# Altium schematic symbol library BMS_Slave.SchLib: 52 symbols
Pins are listed as number, name and electrical type; pins without a type are passive.

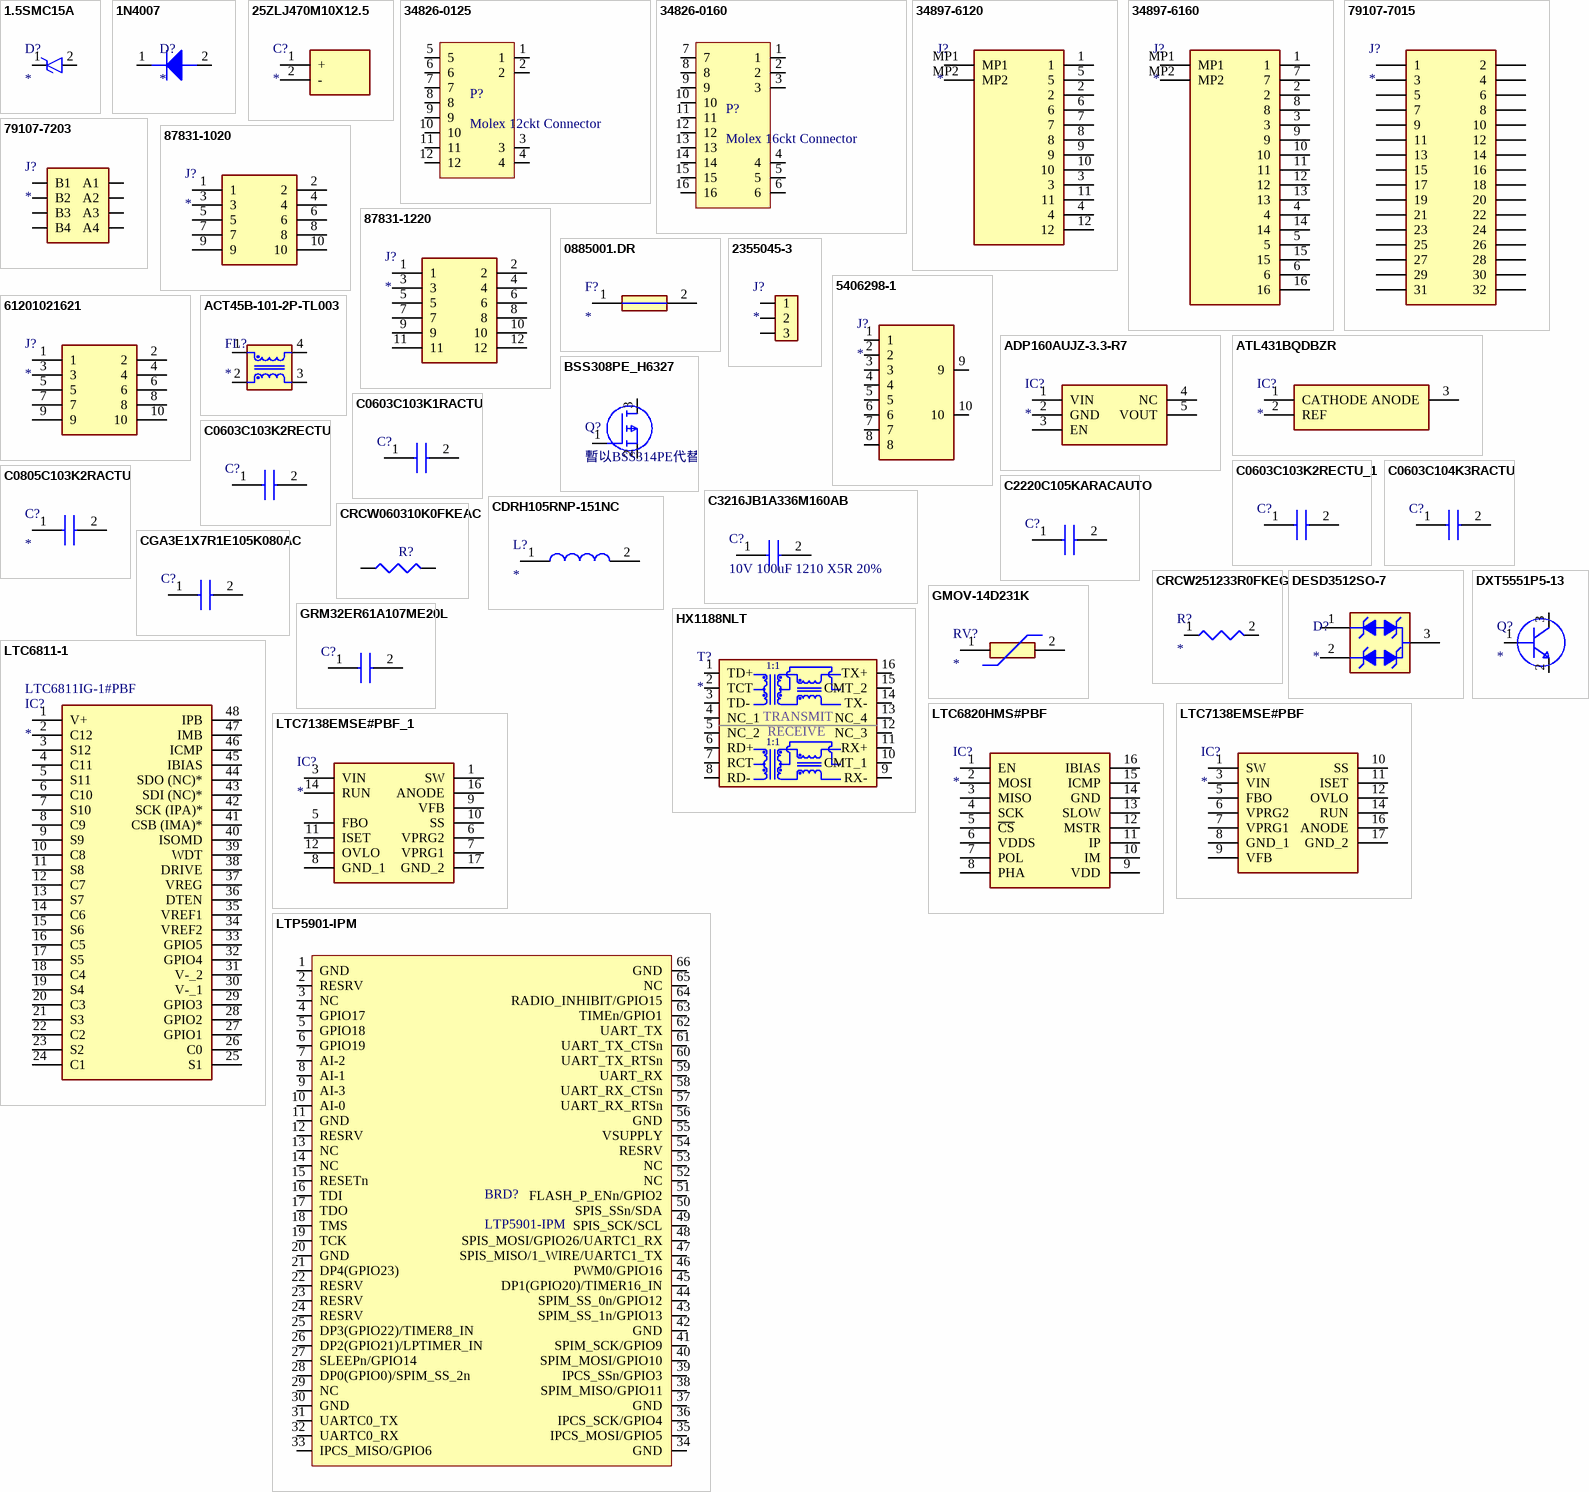
[diagram p0: symbols 1.5SMC15A to LTP5901-IPM]

## 1.5SMC15A
designator D?
TVS Diode (Uni-directional), Vwork=12.8V, V; Manufacturer_Name: ON Semiconductor; Manufacturer_Part_Number: SZESD9101P2T5G; Datasheet Link: http://www.onsemi.com/pub/Collateral/ESD9101-D.PDF; Height: 0.4mm; Mouser Part Number: 863-SZESD9101P2T5G; Mouser Price/Stock: https://www.mouser.co.uk/ProductDetail/ON-Semiconductor/SZESD9101P2T5G?qs=5aG0NVq1C4yTUV3vL3eSQg%3D%3D; Arrow Part Number: SZESD9101P2T5G; Arrow Price/Stock: https://www.arrow.com/en/products/szesd9101p2t5g/on-semiconductor
footprint SODFL1006X40N
pins: 1 K, 2 A

## 1N4007
designator D?
Diode; Manufacturer_Name: Shikues; Manufacturer_Part_Number: 1N4007; Datasheet Link: https://datasheet.lcsc.com/szlcsc/SK-1N4007_C126233.pdf; Height: 2.42mm
footprint DIOM5327X242N
pins: 1 -, 2 +

## 25ZLJ470M10X12.5
designator C?
Capacitor Polarised; Manufacturer_Name: Rubycon; Manufacturer_Part_Number: 25ZLJ470M10X12.5; Datasheet Link: http://www.rubycon.co.jp/en/catalog/e_pdfs/aluminum/e_zlj.pdf; Height: 13.5mm; Mouser Part Number: 232-25ZLJ470M10X12.5; Mouser Price/Stock: https://www.mouser.com/Search/Refine.aspx?Keyword=232-25ZLJ470M10X12.5; RS Part Number: 7258950P; RS Price/Stock: http://uk.rs-online.com/web/p/products/7258950P
footprint CAPPRD500W60D1050H1350
pins: 1 +, 2 -

## 34826-0125
designator P?, comment Molex 12ckt Connector
Molex Mini50, 12ckt
footprint 34826-0125 (Molex, MINI50, 12ckt)
pins: 1, 2, 3, 4, 5, 6, 7, 8, 9, 10, 11, 12

## 34826-0160
designator P?, comment Molex 16ckt Connector
Molex Mini50, 16ckt
footprint 34826-0160 (Molex, MINI50, 16ckt)
pins: 1, 2, 3, 4, 5, 6, 7, 8, 9, 10, 11, 12, 13, 14, 15, 16

## 34897-6120
designator J?
Connector; Manufacturer_Name: Molex; Manufacturer_Part_Number: 34897-6120; Datasheet Link: https://componentsearchengine.com/Datasheets/1/34897-6120.pdf; Height: 12.44mm; Mouser Part Number: 538-34897-6120; Mouser Price/Stock: https://www.mouser.com/Search/Refine.aspx?Keyword=538-34897-6120
footprint 348976120
pins: 1, 2, 3, 4, 5, 6, 7, 8, 9, 10, 11, 12, MP1, MP2

## 34897-6160
designator J?
Connector; Manufacturer_Name: Molex; Manufacturer_Part_Number: 34897-6160; Datasheet Link: https://www.molex.com/pdm_docs/sd/348976160_sd.pdf; Height: 11.88mm; Mouser Part Number: 538-34897-6160; Mouser Price/Stock: https://www.mouser.co.uk/ProductDetail/Molex/34897-6160?qs=HXFqYaX1Q2x%252BG%2FltLjIUuQ%3D%3D
footprint 348976160
pins: 1, 2, 3, 4, 5, 6, 7, 8, 9, 10, 11, 12, 13, 14, 15, 16, MP1, MP2

## 79107-7015
designator J?
Connector; Manufacturer_Name: Molex; Manufacturer_Part_Number: 79107-7015; Datasheet Link: https://www.mouser.it/ProductDetail/?qs=sC9oT6LG9NABSUXoaYw0oQ%3D%3D; Height: 4.69mm; Mouser Part Number: 538-79107-7015; Mouser Price/Stock: https://www.mouser.co.uk/ProductDetail/Molex/79107-7015/?qs=sC9oT6LG9NABSUXoaYw0oQ%3D%3D
footprint 791077015
pins: 1, 2, 3, 4, 5, 6, 7, 8, 9, 10, 11, 12, 13, 14, 15, 16, 17, 18, 19, 20, 21, 22, 23, 24, 25, 26, 27, 28, 29, 30, 31, 32

## 79107-7203
designator J?
2x4 Connector; Manufacturer_Name: Molex; Manufacturer_Part_Number: 79107-7203; Datasheet Link: https://www.molex.com/pdm_docs/sd/791077002_sd.pdf; Height: 4.44mm; Mouser Part Number: 538-79107-7203; Mouser Price/Stock: https://www.mouser.com/Search/Refine.aspx?Keyword=538-79107-7203
footprint 791077203
pins: A1, A2, A3, A4, B1, B2, B3, B4

## 87831-1020
designator J?
Connector; Manufacturer_Name: Molex; Manufacturer_Part_Number: 87831-1020; Datasheet Link: http://docs-emea.rs-online.com/webdocs/150d/0900766b8150deae.pdf; Height: 6.4mm; Mouser Part Number: 538-87831-1020; Mouser Price/Stock: https://www.mouser.co.uk/ProductDetail/Molex/87831-1020?qs=8PELaTI4Pt8k%2F%2FV9vKeYIg%3D%3D; ComponentLink1Description: Mouser; ComponentLink1URL: https://www.mouser.tw/ProductDetail/Molex/87831-1020?qs=sGAEpiMZZMvlX3nhDDO4ALOty1HZ%252Bs%252BngO6zIVHY%252BW4%3D
footprint SHDR10W55P200_2X5_1265X630X640P
pins: 1, 2, 3, 4, 5, 6, 7, 8, 9, 10

## 87831-1220
designator J?
Connector; Manufacturer_Name: Molex; Manufacturer_Part_Number: 87831-1220; Datasheet Link: http://docs-emea.rs-online.com/webdocs/150d/0900766b8150deae.pdf; Height: 6.4mm; Mouser Part Number: 538-87831-1220; Mouser Price/Stock: https://www.mouser.co.uk/ProductDetail/Molex/87831-1220?qs=ZD3%252BwFPSULxSWc7O5pIOcA%3D%3D; ComponentLink1Description: Mouser; ComponentLink1URL: https://www.mouser.tw/ProductDetail/Molex/87831-1220?qs=ZD3%252BwFPSULxSWc7O5pIOcA%3D%3D
footprint SHDR12W55P200_2X6_1465X630X640P
pins: 1, 2, 3, 4, 5, 6, 7, 8, 9, 10, 11, 12

## 0885001.DR
designator F?
Fuse; Manufacturer_Name: LITTELFUSE; Manufacturer_Part_Number: 0885001.DR; Datasheet Link: https://m.littelfuse.com/~/media/electronics/datasheets/fuses/littelfuse_fuse_885_datasheet.pdf.pdf; Height: 4.88mm; Mouser Part Number: 576-0885001.DR; Mouser Price/Stock: https://www.mouser.co.uk/ProductDetail/Littelfuse/0885001DR/?qs=r5DSvlrkXmKVcuud9wy%2Flg%3D%3D; Arrow Part Number: 0885001.DR; Arrow Price/Stock: https://www.arrow.com/en/products/0885001.dr/littelfuse; ComponentLink1Description: Mouser; ComponentLink1URL: https://www.mouser.tw/ProductDetail/Littelfuse/0885001DR?qs=%2Fha2pyFaduiwU43SpjNCEUlIPJiIEFAqTblCrVFP8sIyn2w6Lh2S1g%3D%3D; ComponentLink2Description: Datasheet; ComponentLink2URL: https://www.mouser.tw/datasheet/2/240/Littelfuse_Fuse_885_Datasheet_pdf-1371443.pdf
footprint 0679L0250-05_fuse_SMD (125VDC, Irated=0.25A Fuse)
pins: 1, 2

## 2355045-3
designator J?
2mm, 3POS Jumper Socket; Manufacturer_Name: TE Connectivity; Manufacturer_Part_Number: 2355045-3; Datasheet Link: https://www.te.com/commerce/DocumentDelivery/DDEController?Action=showdoc&DocId=Customer+Drawing%7F2355045%7FA%7Fpdf%7FEnglish%7FENG_CD_2355045_A.pdf%7F2355045-6; Height: 5.5mm; Mouser Part Number: 571-2355045-3; Mouser Price/Stock: https://www.mouser.co.uk/ProductDetail/TE-Connectivity/2355045-3/?qs=Cb2nCFKsA8pFN07a8M%2F2vA%3D%3D
footprint 23550453
pins: 1, 2, 3

## 5406298-1
designator J?
Connector; Manufacturer_Name: TE Connectivity; Manufacturer_Part_Number: 5406298-1; Datasheet Link: https://www.te.com/commerce/DocumentDelivery/DDEController?Action=showdoc&DocId=Customer+Drawing%7F5406298%7FD%7Fpdf%7FEnglish%7FENG_CD_5406298_D.pdf%7F5406298-1; Height: 14.48mm; Mouser Part Number: 571-5406298-1; Mouser Price/Stock: https://www.mouser.co.uk/ProductDetail/TE-Connectivity/5406298-1?qs=l9GpKJB5FDKzdZ%252B2Xub1%2Fg%3D%3D; Arrow Part Number: 5406298-1; Arrow Price/Stock: https://www.arrow.com/en/products/5406298-1/te-connectivity
footprint 54062981
pins: 1, 2, 3, 4, 5, 6, 7, 8, 9, 10

## 61201021621
designator J?
Connector; Manufacturer_Name: Wurth Elektronik; Manufacturer_Part_Number: 61201021621; Datasheet Link: http://docs-emea.rs-online.com/webdocs/13f3/0900766b813f3580.pdf; Height: 9.25mm; Mouser Part Number: 710-61201021621; Mouser Price/Stock: https://www.mouser.co.uk/ProductDetail/Wurth-Elektronik/61201021621?qs=W%252B2sBeLta1a0dwX5pxbfXw%3D%3D; ComponentLink1Description: Mouser; ComponentLink1URL: https://www.mouser.tw/ProductDetail/Wurth-Elektronik/61201021621?qs=W%252B2sBeLta1a0dwX5pxbfXw%3D%3D
footprint SHDR10W64P254_2X5_2036X885X925P
pins: 1, 2, 3, 4, 5, 6, 7, 8, 9, 10

## ACT45B-101-2P-TL003
designator FL?
Filter; Manufacturer_Name: TDK; Manufacturer_Part_Number: ACT45B-101-2P-TL003; Datasheet Link: https://componentsearchengine.com/Datasheets/2/ACT45B-101-2P-TL003.pdf; Height: 3mm; Mouser Part Number: 810-ACT45B1012PTL003; Mouser Price/Stock: https://www.mouser.co.uk/ProductDetail/TDK/ACT45B-101-2P-TL003?qs=SKgu1TwNDxoLFWvwfqJuJA%3D%3D; Arrow Part Number: ACT45B-101-2P-TL003; Arrow Price/Stock: https://www.arrow.com/en/products/act45b-101-2p-tl003/tdk
footprint ACT45B1012PTL003
pins: 1, 2, 3, 4

## ADP160AUJZ-3.3-R7
designator IC?
Integrated Circuit; Manufacturer_Name: Analog Devices; Manufacturer_Part_Number: ADP160AUJZ-3.3-R7; Datasheet Link: https://datasheet.lcsc.com/szlcsc/Analog-Devices-ADI-ADP160AUJZ-3-3-R7_C153207.pdf; Height: 1mm; Mouser Part Number: 584-ADP160AUJZ-3.3R7; Mouser Price/Stock: https://www.mouser.co.uk/ProductDetail/Analog-Devices/ADP160AUJZ-33-R7?qs=WIvQP4zGanjwQREaBvEWig%3D%3D; Arrow Part Number: ADP160AUJZ-3.3-R7; Arrow Price/Stock: https://www.arrow.com/en/products/adp160aujz-3.3-r7/analog-devices
footprint SOT95P280X100-5N
pins: 1 VIN, 2 GND, 3 EN, 4 NC, 5 VOUT

## ATL431BQDBZR
designator IC?
Integrated Circuit; Manufacturer_Name: Texas Instruments; Manufacturer_Part_Number: ATL431BQDBZR; Datasheet Link: http://www.ti.com/lit/gpn/atl431; Height: 1.12mm; Mouser Part Number: 595-ATL431BQDBZR; Mouser Price/Stock: https://www.mouser.com/Search/Refine.aspx?Keyword=595-ATL431BQDBZR
footprint SOT95P237X112-3N
pins: 1 CATHODE, 2 REF, 3 ANODE

## BSS308PE_H6327
designator Q?, comment 暫以BSS314PE代替
MOSFET (P-Channel); Manufacturer_Name: Infineon; Manufacturer_Part_Number: BSS308PE H6327; Datasheet Link: https://componentsearchengine.com/Datasheets/1/BSS308PE H6327.pdf; Height: 1.1mm; Mouser Part Number: 726-BSS308PEH6327; Mouser Price/Stock: https://www.mouser.co.uk/ProductDetail/Infineon-Technologies/BSS308PE-H6327/?qs=oPPfIaWL1l0trIaeR9VW8A%3D%3D
footprint SOT95P260X110-3N
pins: 1 G, 2 S, 3 D

## C0603C103K1RACTU
designator C?, comment 100V 0.01uF 0603 X7R 10%  (value not drawn)
Manufacturer_Name: Kemet; Manufacturer_Part_Number: C0603C103K1RACTU; Mouser Part Number: 80-C0603C103K1R; Mouser Price/Stock: https://www.mouser.co.uk/ProductDetail/KEMET/C0603C103K1RACTU?qs=cRfsnvmdsa72Sk5Ae%252BpQKQ%3D%3D; Arrow Part Number: C0603C103K1RACTU; Arrow Price/Stock: https://www.arrow.com/en/products/c0603c103k1ractu/kemet-corporation; ComponentLink1Description: Mouser; ComponentLink1URL: https://www.mouser.tw/ProductDetail/KEMET/C0603C103K1RACTU?qs=cRfsnvmdsa72Sk5Ae%252BpQKQ%3D%3D
footprint CAPC1608X85N
pins: 1 C1, 2 C2

## C0603C103K2RECTU
designator C?, comment 200V, 0.01uF, 0603, X7R  (value not drawn)
200V, 0.01uF, 0603, X7R, 10%, Capacitor; Manufacturer_Name: Kemet; Manufacturer_Part_Number: C0805X103M2RACAUTO; Datasheet Link: https://eu.mouser.com/datasheet/2/212/1/KEM_C1078_X7R_FT-CAP_AUTO_SMD-1103315.pdf; Height: 0.98mm; Mouser Part Number: 80-C0805X103M2RAUTO; Mouser Price/Stock: https://www.mouser.co.uk/ProductDetail/KEMET/C0805X103M2RACAUTO?qs=W%2FMpXkg%252BdQ50YX0BoZGkVA%3D%3D; ComponentLink1Description: Mouser; ComponentLink1URL: https://www.mouser.tw/ProductDetail/KEMET/C0603C103K2RECTU?qs=Mv7BduZupUj%2FMy3Zlcu2KQ%3D%3D
footprint CAPC1608X85N
pins: 1, 2

## C0603C103K2RECTU_1
designator C?, comment 200V, 0.01uF, 0603, X7R  (value not drawn)
200V, 0.01uF, 0603, X7R, 10%, Capacitor; Manufacturer_Name: Kemet; Manufacturer_Part_Number: C0805X103M2RACAUTO; Datasheet Link: https://eu.mouser.com/datasheet/2/212/1/KEM_C1078_X7R_FT-CAP_AUTO_SMD-1103315.pdf; Height: 0.98mm; Mouser Part Number: 80-C0805X103M2RAUTO; Mouser Price/Stock: https://www.mouser.co.uk/ProductDetail/KEMET/C0805X103M2RACAUTO?qs=W%2FMpXkg%252BdQ50YX0BoZGkVA%3D%3D; ComponentLink1Description: Mouser; ComponentLink1URL: https://www.mouser.tw/ProductDetail/KEMET/C0603C103K2RECTU?qs=Mv7BduZupUj%2FMy3Zlcu2KQ%3D%3D
footprint CAPC1608X85N
pins: 1, 2

## C0603C104K3RACTU
designator C?  (value not drawn)
25V 0.1uF X7R 0603 10%, MLCC; Manufacturer_Name: Kemet; Manufacturer_Part_Number: C0805C104M3RACTU; Datasheet Link: https://content.kemet.com/datasheets/KEM_C1091_C0G_ESD.pdf; Height: 1.4mm; Mouser Part Number: 80-C0805C104M3R; Mouser Price/Stock: https://www.mouser.co.uk/ProductDetail/KEMET/C0805C104M3RACTU?qs=jbCUrP3sAgSIdMuvv9W4Pg%3D%3D; Arrow Part Number: C0805C104M3RACTU; Arrow Price/Stock: https://www.arrow.com/en/products/c0805c104m3ractu/kemet-corporation; ComponentLink1Description: Mouser; ComponentLink1URL: https://www.mouser.tw/ProductDetail/KEMET/C0805C104M3RACTU?qs=sGAEpiMZZMukHu%252BjC5l7YdnN1Wy6sJLhD140JK5D3sc%3D
footprint CAPC1608X85N
pins: 1, 2

## C0805C103K2RACTU
designator C?
Capacitor; Manufacturer_Name: Kemet; Manufacturer_Part_Number: C0805C103K2RACTU; Datasheet Link: http://docs-emea.rs-online.com/webdocs/1515/0900766b8151517e.pdf; Height: 0.88mm; Mouser Part Number: 80-C0805C103K2R; Mouser Price/Stock: https://www.mouser.com/Search/Refine.aspx?Keyword=80-C0805C103K2R; Arrow Part Number: C0805C103K2RACTU; Arrow Price/Stock: https://www.arrow.com/en/products/c0805c103k2ractu/kemet-corporation
footprint CAPC2012X88N
pins: 1, 2

## C2220C105KARACAUTO
designator C?  (value not drawn)
250V 1uF X7R 2220 10%, MLCC; Manufacturer_Name: Kemet; Manufacturer_Part_Number: C2220C105KARACAUTO; Datasheet Link: https://componentsearchengine.com/Datasheets/1/C2220C105KARACAUTO.pdf; Height: 1.65mm; Mouser Part Number: 80-C2220C105KARAUTO; Mouser Price/Stock: https://www.mouser.co.uk/ProductDetail/KEMET/C2220C105KARACAUTO?qs=QXapti0WIWKFdii6of65gg%3D%3D; Arrow Part Number: C2220C105KARACAUTO; Arrow Price/Stock: https://www.arrow.com/en/products/c2220c105karacauto/kemet-corporation; ComponentLink1Description: Mouser; ComponentLink1URL: https://www.mouser.tw/ProductDetail/KEMET/C2220C105KARACAUTO?qs=%2Fha2pyFaduhp05YE4c39qqmiVsJFV0OzfRZuT1KNvv9TmDumwlg0CjvL39eg1NgM
footprint CAPC5750X165N
pins: 1, 2

## C3216JB1A336M160AB
designator C?, comment 10V 100uF 1210 X5R 20%
10V 100uF 1210 X5R 20% Ceramic Capacitor; Manufacturer_Name: TDK; Manufacturer_Part_Number: C3216JB1A336M160AB; Datasheet Link: https://product.tdk.com/info/en/catalog/datasheets/mlcc_commercial_general_en.pdf?ref_disty=digikey; Height: 1.8mm
footprint CAPC3216X180N
pins: 1, 2

## CDRH105RNP-151NC
designator L?
Inductor; Manufacturer_Name: Sumida; Manufacturer_Part_Number: CDRH105RNP-471NC; Datasheet Link: http://www.mouser.com/datasheet/2/390/CDRH105R-465909.pdf; Height: 5.1mm; Mouser Part Number: N/A; Mouser Price/Stock: https://www.mouser.com/Search/Refine.aspx?Keyword=N%2FA; ComponentLink1Description: Mouser; ComponentLink1URL: https://www.mouser.tw/ProductDetail/Sumida/CDRH105RNP-151NC?qs=%2Fha2pyFaduiJIMvrc5b4XXz5GT12RxEPNnLjqkAx5ifyKMqa%252B10q805zZNUP4vKq; ComponentLink2Description: Datasheet; ComponentLink2URL: https://www.mouser.tw/datasheet/2/390/CDRH105R-465909.pdf
footprint INDPM102100X510N
pins: 1, 2

## CGA3E1X7R1E105K080AC
designator C?  (value not drawn)
0603 25V 1uF X7R 10% AEC-Q200; Manufacturer_Name: TDK; Manufacturer_Part_Number: CGA3E1X7R1C105K080AC; Datasheet Link: http://docs-emea.rs-online.com/webdocs/14e9/0900766b814e9125.pdf; Height: 0.9mm; Mouser Part Number: 810-CGA3E1X7R1C105AC; Mouser Price/Stock: https://www.mouser.co.uk/ProductDetail/TDK/CGA3E1X7R1C105K080AC?qs=XHchNesRtUbBVNsGg9%252BP9g%3D%3D; Arrow Part Number: CGA3E1X7R1C105K080AC; Arrow Price/Stock: https://www.arrow.com/en/products/cga3e1x7r1c105k080ac/tdk; ComponentLink1Description: Mouser; ComponentLink1URL: https://www.mouser.tw/ProductDetail/TDK/CGA3E1X7R1E105K080AC?qs=NRhsANhppD9VxGl2AsmRpw%3D%3D
footprint CAPC1608X90N
pins: 1, 2

## CRCW060310K0FKEAC
designator R?  (value not drawn)
Res Thick Film 0603 1/8W ±100ppm/°C Molded SMD Paper T/R; Manufacturer: Vishay; Manufacturer Part Number: CRCW080510K0FKEAC; Power Rating: 125mW; Resistance: 10000R; Tolerance: 1%; Case/Package: 0805; Lead Free: Lead Free; ComponentLink1URL: http://www.vishay.com/docs/28773/crcwce3.pdf?src-supplier=Digi-Key; ComponentLink1Description: http://www.vishay.com/docs/28773/crcwce3.pdf?src-supplier=Digi-Key; ComponentLink2URL: http://datasheet.octopart.com/CRCW080510K0FKEAC-Vishay-datasheet-100063072.pdf?src-supplier=Future+Electronics; ComponentLink2Description: http://datasheet.octopart.com/CRCW080510K0FKEAC-Vishay-datasheet-100063072.pdf?src-supplier=Future+Electronics
footprint RESC1608X55N
pins: 1, 2

## CRCW251233R0FKEG
designator R?
33Ohm, 1%, 1W, Resistor; Manufacturer_Name: Vishay; Manufacturer_Part_Number: CRCW251233R0FKEG; Datasheet Link: http://www.vishay.com/docs/20035/dcrcwe3.pdf; Height: 0.7mm; Arrow Part Number: CRCW251233R0FKEG; Arrow Price/Stock: https://www.arrow.com/en/products/crcw251233r0fkeg/vishay
footprint RESC6332X70N
pins: 1, 2

## DESD3512SO-7
designator D?
TVS Diode (Bi-directional); Manufacturer_Name: ON Semiconductor; Manufacturer_Part_Number: SZNUP3105LT1G; Datasheet Link: https://www.onsemi.com/pdf/datasheet/nup3105l-d.pdf; Height: 1.11mm; Mouser Part Number: 863-SZNUP3105LT1G; Mouser Price/Stock: https://www.mouser.co.uk/ProductDetail/ON-Semiconductor/SZNUP3105LT1G?qs=tCMd4XlZ%2FiCThtTDFH3bUw%3D%3D; Arrow Part Number: SZNUP3105LT1G; Arrow Price/Stock: https://www.arrow.com/en/products/sznup3105lt1g/on-semiconductor
footprint SOT96P237X111-3N
pins: 1, 2, 3

## DXT5551P5-13
designator Q?
Transistor BJT NPN; Manufacturer_Name: Diodes Inc.; Manufacturer_Part_Number: DXT5551P5-13; Datasheet Link: https://www.diodes.com/assets/Datasheets/DXT5551P5.pdf; Mouser Part Number: 522-DXT5551P5-13; Mouser Price/Stock: https://www.mouser.co.uk/ProductDetail/Diodes-Incorporated/DXT5551P5-13?qs=pmB%252BthhaMeURGx362MbdPw%3D%3D; Arrow Part Number: DXT5551P5-13; Arrow Price/Stock: https://www.arrow.com/en/products/dxt5551p5-13/diodes-incorporated
footprint DXT5551P513
pins: 1 B, 2 E, 3 C

## GMOV-14D231K
designator RV?
Varistor; Manufacturer_Name: Bourns; Manufacturer_Part_Number: GMOV-14D231K; Allied_Number: 71688173; Datasheet Link: https://componentsearchengine.com/Datasheets/1/GMOV-14D231K.pdf; Height: 20mm; Mouser Part Number: 652-GMOV-14D231K; Mouser Price/Stock: https://www.mouser.com/Search/Refine.aspx?Keyword=652-GMOV-14D231K; RS Part Number: 1862128P; RS Price/Stock: http://uk.rs-online.com/web/p/products/1862128P; Allied Price/Stock: https://www.alliedelec.com/bourns-gmov-14d231k/71688173/
footprint GMOV14D231K
pins: 1, 2

## GRM32ER61A107ME20L
designator C?  (value not drawn)
Capacitor; Manufacturer_Name: Murata Electronics; Manufacturer_Part_Number: GRM32ER61A107ME20L; Datasheet Link: https://www.murata.com/en-global/api/pdfdownloadapi?cate=luCeramicCapacitorsSMD&partno=GRM32ER61A107ME20%23; Height: 2.7mm; Mouser Part Number: 81-GRM32ER61A107ME0L; Mouser Price/Stock: https://www.mouser.co.uk/ProductDetail/Murata-Electronics/GRM32ER61A107ME20L?qs=QRVci0nWsCb7NlWFDLlBHA%3D%3D; Arrow Part Number: GRM32ER61A107ME20L; Arrow Price/Stock: https://www.arrow.com/en/products/grm32er61a107me20l/murata-manufacturing; ComponentLink1Description: Mouser; ComponentLink1URL: https://www.mouser.tw/ProductDetail/Murata-Electronics/GRM32ER61A107ME20L?qs=QRVci0nWsCb7NlWFDLlBHA%3D%3D; ComponentLink2Description: Alternative; ComponentLink2URL: https://www.mouser.tw/ProductDetail/KEMET/C1210C107M8PACTU?qs=%2Fha2pyFaduiE5F3NeAx%252BsprSoAdidwO3b%2FrC%252BOmtqFrT1TfrhYgUKA%3D%3D
footprint CAPC3225X270N
pins: 1, 2

## HX1188NLT
designator T?
Transformer; Manufacturer_Name: Pulse; Manufacturer_Part_Number: HX1188NLT; Datasheet Link: https://productfinder.pulseeng.com/doc_type/WEB301/doc_num/HX1188NL-01/doc_part/HX1188NL.pdf; Height: 6.07mm; Mouser Part Number: 673-HX1188NLT; Mouser Price/Stock: https://www.mouser.co.uk/ProductDetail/Pulse-Electronics/HX1188NLT?qs=7h3O1UVlCGOyAkRk4EAe8A%3D%3D; Arrow Part Number: HX1188NLT; Arrow Price/Stock: https://www.arrow.com/en/products/hx1188nlt/pulse-electronics-corporation
footprint HX1188NLT
pins: 1 TD+, 2 TCT, 3 TD-, 4 NC_1, 5 NC_2, 6 RD+, 7 RCT, 8 RD-, 9 RX-, 10 CMT_1, 11 RX+, 12 NC_3, 13 NC_4, 14 TX-, 15 CMT_2, 16 TX+
text: 1:1; TRANSMIT; RECEIVE

## LTC6811-1
designator IC?  Supplier Part Number 1: LTC6811IG-1#PBF
Integrated Circuit; Manufacturer_Name: Linear Technology; Manufacturer_Part_Number: LTC6811-1; Datasheet Link: http://cds.linear.com/docs/en/datasheet/68111fb.pdf; Height: 2mm; Supplier 1: Mouser
footprint SOP50P780X200-48N
pins: 1 V+, 2 C12, 3 S12, 4 C11, 5 S11, 6 C10, 7 S10, 8 C9, 9 S9, 10 C8, 11 S8, 12 C7, 13 S7, 14 C6, 15 S6, 16 C5, 17 S5, 18 C4, 19 S4, 20 C3, 21 S3, 22 C2, 23 S2, 24 C1, 25 S1, 26 C0, 27 GPIO1, 28 GPIO2, 29 GPIO3, 30 V-_1, 31 V-_2, 32 GPIO4, 33 GPIO5, 34 VREF2, 35 VREF1, 36 DTEN, 37 VREG, 38 DRIVE, 39 WDT, 40 ISOMD, 41 CSB (IMA)*, 42 SCK (IPA)*, 43 SDI (NC)*, 44 SDO (NC)*, 45 IBIAS, 46 ICMP, 47 IMB, 48 IPB

## LTC6820HMS#PBF
designator IC?
Integrated Circuit; Manufacturer_Name: Analog Devices; Manufacturer_Part_Number: LTC6820HMS#PBF; Datasheet Link: https://www.analog.com/media/en/technical-documentation/data-sheets/LTC6820.pdf; Height: 1.1mm; Mouser Part Number: 584-LTC6820HMS#PBF; Mouser Price/Stock: https://www.mouser.co.uk/ProductDetail/Analog-Devices/LTC6820HMSPBF/?qs=hVkxg5c3xu%252BAhS55eUb%252BEQ%3D%3D; Arrow Part Number: LTC6820HMS#PBF; Arrow Price/Stock: https://www.arrow.com/en/products/ltc6820hmspbf/analog-devices
footprint SOP50P490X110-16N
pins: 1 EN, 2 MOSI, 3 MISO, 4 SCK, 5 ~{CS}, 6 VDDS, 7 POL, 8 PHA, 9 VDD, 10 IM, 11 IP, 12 MSTR, 13 SLOW, 14 GND, 15 ICMP, 16 IBIAS

## LTC7138EMSE#PBF
designator IC?
Integrated Circuit; Manufacturer_Name: Analog Devices; Manufacturer_Part_Number: LTC7138EMSE#PBF; Datasheet Link: https://www.arrow.com/en/products/ltc7138emsepbf/analog-devices; Height: 1.1mm; Arrow Part Number: LTC7138EMSE#PBF; Arrow Price/Stock: https://www.arrow.com/en/products/ltc7138emsepbf/analog-devices
footprint LTC7138EMSEPBF
pins: 1 SW, 3 VIN, 5 FBO, 6 VPRG2, 7 VPRG1, 8 GND_1, 9 VFB, 10 SS, 11 ISET, 12 OVLO, 14 RUN, 16 ANODE, 17 GND_2

## LTC7138EMSE#PBF_1
designator IC?
Integrated Circuit; Manufacturer_Name: Analog Devices; Manufacturer_Part_Number: LTC7138EMSE#PBF; Datasheet Link: https://www.arrow.com/en/products/ltc7138emsepbf/analog-devices; Height: 1.1mm; Arrow Part Number: LTC7138EMSE#PBF; Arrow Price/Stock: https://www.arrow.com/en/products/ltc7138emsepbf/analog-devices
footprint LTC7138EMSEPBF
pins: 1 SW, 3 VIN, 5 FBO, 6 VPRG2, 7 VPRG1, 8 GND_1, 9 VFB, 10 SS, 11 ISET, 12 OVLO, 14 RUN, 16 ANODE, 17 GND_2

## LTP5901-IPM
designator BRD?
LTP5901, On-Chip Antena, Wireless IP network mote/network manager, Dust & ADI
footprint LTP5901-IPM (Chip Antenna)
pins: 1 GND, 2 RESRV, 3 NC, 4 GPIO17, 5 GPIO18, 6 GPIO19, 7 AI-2, 8 AI-1, 9 AI-3, 10 AI-0, 11 GND, 12 RESRV, 13 NC, 14 NC, 15 RESETn, 16 TDI, 17 TDO, 18 TMS, 19 TCK, 20 GND, 21 DP4(GPIO23), 22 RESRV, 23 RESRV, 24 RESRV, 25 DP3(GPIO22)/TIMER8_IN, 26 DP2(GPIO21)/LPTIMER_IN, 27 SLEEPn/GPIO14, 28 DP0(GPIO0)/SPIM_SS_2n, 29 NC, 30 GND, 31 UARTC0_TX, 32 UARTC0_RX, 33 IPCS_MISO/GPIO6, 34 GND, 35 IPCS_MOSI/GPIO5, 36 IPCS_SCK/GPIO4, 37 GND, 38 SPIM_MISO/GPIO11, 39 IPCS_SSn/GPIO3, 40 SPIM_MOSI/GPIO10, 41 SPIM_SCK/GPIO9, 42 GND, 43 SPIM_SS_1n/GPIO13, 44 SPIM_SS_0n/GPIO12, 45 DP1(GPIO20)/TIMER16_IN, 46 PWM0/GPIO16, 47 SPIS_MISO/1_WIRE/UARTC1_TX, 48 SPIS_MOSI/GPIO26/UARTC1_RX, 49 SPIS_SCK/SCL, 50 SPIS_SSn/SDA, 51 FLASH_P_ENn/GPIO2, 52 NC, 53 NC, 54 RESRV, 55 VSUPPLY, 56 GND, 57 UART_RX_RTSn, 58 UART_RX_CTSn, 59 UART_RX, 60 UART_TX_RTSn, 61 UART_TX_CTSn, 62 UART_TX, 63 TIMEn/GPIO1, 64 RADIO_INHIBIT/GPIO15, 65 NC, 66 GND

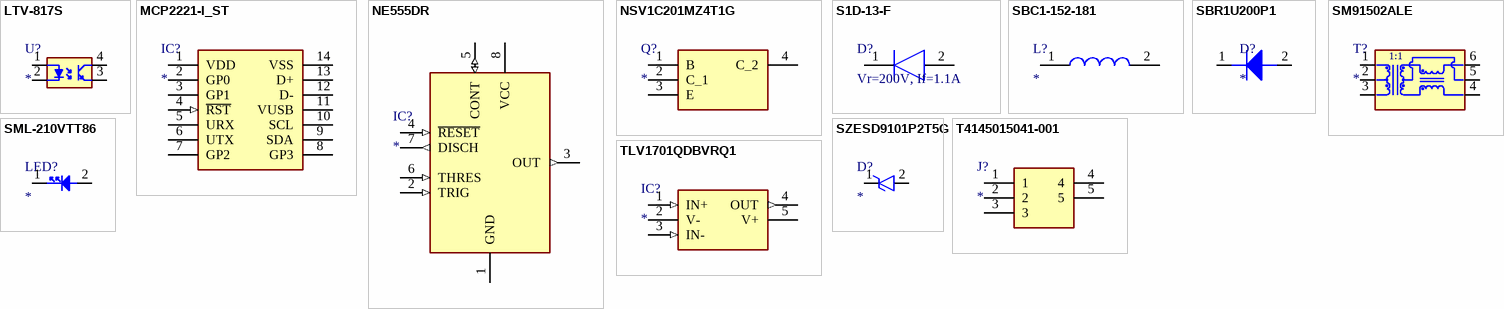
[diagram p1: symbols LTV-817S to TLV1701QDBVRQ1]

## LTV-817S
designator U?
Optocoupler; Manufacturer_Name: Lite-On; Manufacturer_Part_Number: LTV-817S; Datasheet Link: http://optoelectronics.liteon.com/upload/download/DS-70-96-0016/LTV-8X7%20series%20201610%20.pdf; Height: 4.6mm; Mouser Part Number: 859-LTV-817S; Mouser Price/Stock: https://www.mouser.com/Search/Refine.aspx?Keyword=859-LTV-817S; RS Part Number: 6912182P; RS Price/Stock: http://uk.rs-online.com/web/p/products/6912182P
footprint SOP254P1016X460-4N
pins: 1 ANODE, 2 CATHODE, 3 EMITTER, 4 COLLECTOR

## MCP2221-I_ST
designator IC?
Integrated Circuit; Manufacturer_Name: Microchip; Manufacturer_Part_Number: MCP2221-I/ST; Datasheet Link: http://docs-emea.rs-online.com/webdocs/132b/0900766b8132b385.pdf; Height: 1.2mm; Mouser Part Number: 579-MCP2221-I/ST; Mouser Price/Stock: https://www.mouser.co.uk/ProductDetail/Microchip-Technology/MCP2221-I-ST?qs=wzzOUr4NhYoPuo4kDaXumA%3D%3D; Arrow Part Number: MCP2221-I/ST; Arrow Price/Stock: https://www.arrow.com/en/products/mcp2221-ist/microchip-technology
footprint SOP65P640X120-14N
pins: 1 VDD (power), 2 GP0, 3 GP1, 4 ~{RST} (in), 5 URX, 6 UTX, 7 GP2, 8 GP3, 9 SDA, 10 SCL, 11 VUSB, 12 D-, 13 D+, 14 VSS (power)

## NE555DR
designator IC?
Integrated Circuit; Manufacturer_Name: Texas Instruments; Manufacturer_Part_Number: NE555DR; Datasheet Link: http://www.ti.com/lit/ds/symlink/ne555.pdf; Height: 1.75mm; Mouser Part Number: 595-NE555DR; Mouser Price/Stock: https://www.mouser.com/Search/Refine.aspx?Keyword=595-NE555DR; RS Part Number: 1218414; RS Price/Stock: http://uk.rs-online.com/web/p/products/1218414
footprint SOIC127P600X175-8N
pins: 1 GND (power), 2 TRIG (in), 3 OUT (out), 4 ~{RESET} (in), 5 CONT (io), 6 THRES (in), 7 DISCH (out), 8 VCC (power)

## NSV1C201MZ4T1G
designator Q?
Transistor; Manufacturer_Name: ON Semiconductor; Manufacturer_Part_Number: NSV1C201MZ4T1G; Datasheet Link: http://www.onsemi.com/pub/Collateral/NSS1C201MZ4-D.PDF; Height: 1.75mm; Mouser Part Number: 863-NSV1C201MZ4T1G; Mouser Price/Stock: https://www.mouser.co.uk/ProductDetail/ON-Semiconductor/NSV1C201MZ4T1G/?qs=abmNkq9no6CNkkQTLXtvJQ%3D%3D; Arrow Part Number: NSV1C201MZ4T1G; Arrow Price/Stock: https://www.arrow.com/en/products/nsv1c201mz4t1g/on-semiconductor
footprint SOT230P700X175-4N
pins: 1 B, 2 C_1, 3 E, 4 C_2

## S1D-13-F
designator D?, comment Vr=200V, If=1.1A
Vr=200V, If=1.1A, Max Surge Current=30A, SMA Diode, Standard Recovery Rectifiers; Manufacturer_Name: Diodes Inc.; Manufacturer_Part_Number: S1D-13-F; Datasheet Link: http://uk.rs-online.com/web/p/products/7385061P; Height: 2.4mm; Mouser Part Number: 621-S1D-F; Mouser Price/Stock: https://www.mouser.co.uk/ProductDetail/Diodes-Incorporated/S1D-13-F?qs=ilKFrTStgeHzNpk1Eq9Reg%3D%3D; Arrow Part Number: S1D-13-F; Arrow Price/Stock: https://www.arrow.com/en/products/s1d-13-f/diodes-incorporated; ComponentLink1Description: Mouser; ComponentLink1URL: https://www.mouser.tw/ProductDetail/Diodes-Incorporated/S1D-13-F?qs=ilKFrTStgeHzNpk1Eq9Reg%3D%3D
footprint DIOM5226X240N
pins: 1 K, 2 A

## SBC1-152-181
designator L?
Inductor; Manufacturer_Name: Kemet; Manufacturer_Part_Number: SBC1-152-181; Datasheet Link: https://api.kemet.com/component-edge/download/datasheet/SBC1-152-181.pdf; Height: 10.5mm; Mouser Part Number: 80-SBC1-152-181; Mouser Price/Stock: https://www.mouser.com/Search/Refine.aspx?Keyword=80-SBC1-152-181
footprint SBC1152181
pins: 1, 2

## SBR1U200P1
designator D?
Flyback Diode; Manufacturer_Name: Shikues; Manufacturer_Part_Number: 1N4007; Datasheet Link: https://datasheet.lcsc.com/szlcsc/SK-1N4007_C126233.pdf; Height: 2.42mm; ComponentLink1Description: Datasheet; ComponentLink1URL: https://www.mouser.com/datasheet/2/115/SBR1U200P1-464839.pdf
footprint POWERDI123
pins: 1 -, 2 +

## SM91502ALE
designator T?
Transformer; Manufacturer_Name: Bourns; Manufacturer_Part_Number: SM91502ALE; Datasheet Link: https://www.bourns.com/docs/product-datasheets/SM91502AL.pdf; Height: 5.72mm; Mouser Part Number: 652-SM91502ALE; Mouser Price/Stock: https://www.mouser.co.uk/ProductDetail/Bourns/SM91502ALE/?qs=qSfuJ%252Bfl%2Fd5OMMG8eLgKCQ%3D%3D; Arrow Part Number: SM91502ALE; Arrow Price/Stock: https://www.arrow.com/en/products/sm91502ale/bourns
footprint SOP254P927X572-6N
pins: 1 PRI_1, 2 PRI_2, 3 PRI_3, 4 SEC_1, 5 SEC_2, 6 SEC_3
text: 1:1

## SML-210VTT86
designator LED?
LED; Manufacturer_Name: ROHM Semiconductor; Manufacturer_Part_Number: SML-210VTT86; Allied_Number: 70522026; Datasheet Link: https://componentsearchengine.com/Datasheets/1/SML-210VTT86.pdf; Height: 0.8mm; Mouser Part Number: 755-SML-210VTT86; Mouser Price/Stock: https://www.mouser.com/Search/Refine.aspx?Keyword=755-SML-210VTT86; RS Part Number: 7007893P; RS Price/Stock: http://uk.rs-online.com/web/p/products/7007893P; Allied Price/Stock: https://www.alliedelec.com/rohm-semiconductor-sml-210vtt86/70522026/
footprint LEDC2012X80N
pins: 1, 2

## SZESD9101P2T5G
designator D?
TVS Diode (Uni-directional); Manufacturer_Name: ON Semiconductor; Manufacturer_Part_Number: SZESD9101P2T5G; Datasheet Link: http://www.onsemi.com/pub/Collateral/ESD9101-D.PDF; Height: 0.4mm; Mouser Part Number: 863-SZESD9101P2T5G; Mouser Price/Stock: https://www.mouser.co.uk/ProductDetail/ON-Semiconductor/SZESD9101P2T5G?qs=5aG0NVq1C4yTUV3vL3eSQg%3D%3D; Arrow Part Number: SZESD9101P2T5G; Arrow Price/Stock: https://www.arrow.com/en/products/szesd9101p2t5g/on-semiconductor
footprint SODFL1006X40N
pins: 1 K, 2 A

## T4145015041-001
designator J?
Connector; Manufacturer_Name: TE Connectivity; Manufacturer_Part_Number: T4145015041-001; Datasheet Link: https://www.te.com/commerce/DocumentDelivery/DDEController?Action=showdoc&DocId=Customer+Drawing%7FT41450150X1001%7FA%7Fpdf%7FEnglish%7FENG_CD_T41450150X1001_A.pdf%7FT4145015041-001; Height: 16mm; Mouser Part Number: 571-T4145015041-001; Mouser Price/Stock: https://www.mouser.co.uk/ProductDetail/TE-Connectivity/T4145015041-001/?qs=YCa%2FAAYMW03du7bzphdMGg%3D%3D; Arrow Part Number: T4145015041-001; Arrow Price/Stock: https://www.arrow.com/en/products/t4145015041-001/te-connectivity
footprint T4145015051001
pins: 1, 2, 3, 4, 5

## TLV1701QDBVRQ1
designator IC?
Integrated Circuit; Manufacturer_Name: Texas Instruments; Manufacturer_Part_Number: TLV1701QDBVRQ1; Datasheet Link: http://www.ti.com/lit/gpn/tlv1701-q1; Height: 1.45mm; Mouser Part Number: 595-TLV1701QDBVRQ1; Mouser Price/Stock: https://www.mouser.com/Search/Refine.aspx?Keyword=595-TLV1701QDBVRQ1
footprint SOT95P280X145-5N
pins: 1 IN+ (in), 2 V- (power), 3 IN- (in), 4 OUT (out), 5 V+ (power)